# EAGLE library part 796644-7 (library con-amp-termi-block)
TERMI-BLOCK, 5MM
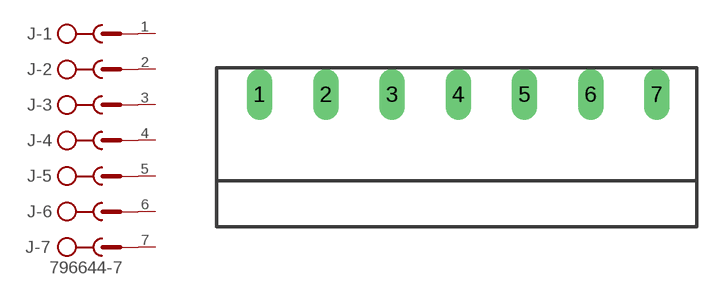
[diagram p1: symbol with the pads of 796644-7; footprint 796644-7]

Designator prefix J; gates -1=SK -2=SK -3=SK -4=SK -5=SK -6=SK -7=SK+V

## 796644-7  [796644-7]
1  -1:SK  pas
2  -2:SK  pas
3  -3:SK  pas
4  -4:SK  pas
5  -5:SK  pas
6  -6:SK  pas
7  -7:SK  pas

## Footprint 796644-7 (pad centres in mm)
Connector Right Angle pitch 5 mm
drill 1.27 pad 1.93 long: 1 -15,0; 2 -10,0; 3 -5,0; 4 0,0; 5 5,0; 6 10,0; 7 15,0